# Altium schematic symbol library Capacitor - Aluminium.SchLib: 294 symbols (part 4 of 5)
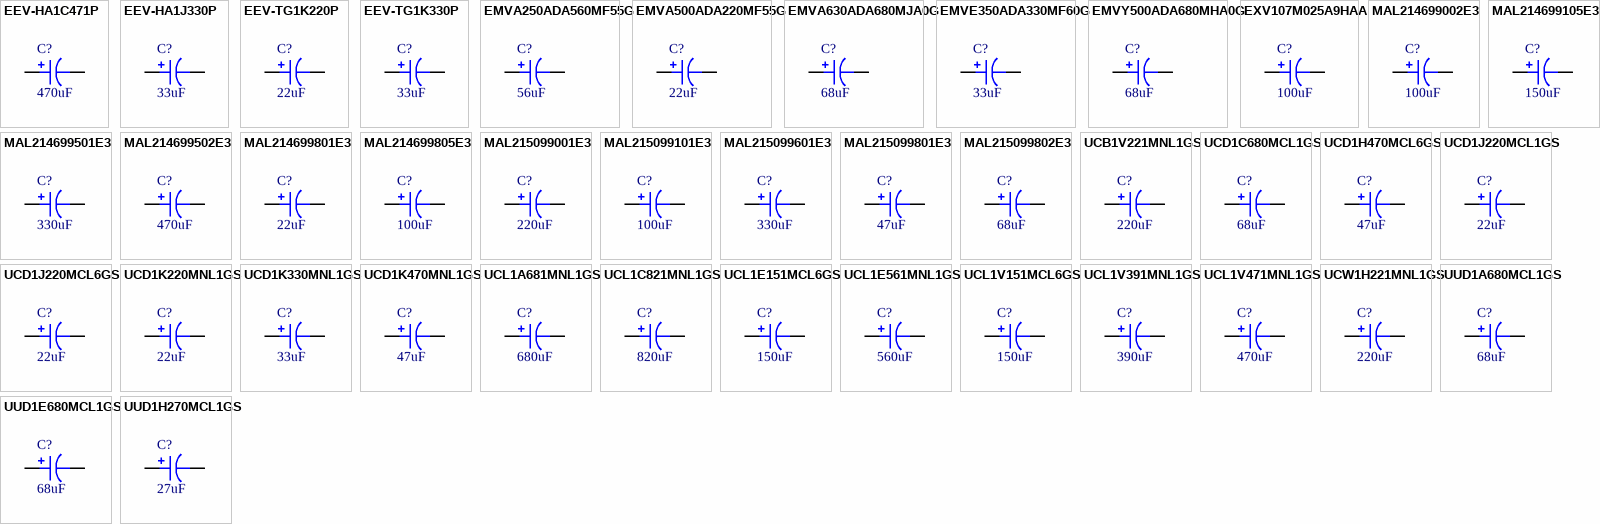
[diagram p10: symbols EEV-HA1C471P to UUD1H270MCL1GS]

## UUD1H270MCL1GS
designator C?, comment 27uF
CAP ALUM 27UF 20% 50V SMD; Part Number: UUD1H270MCL1GS; Manufacturer: Nichicon; TemperatureRange: -55C ~ 105C; Type: General Purpose; Ripple Current: 185mA; Impedance: 680 mOhm; Lifetime @ Temp: 2000 Hrs @ 105C; Value: 27uF; PartId: 7251; Supplier 1: Digi-Key; Supplier Part Number 1: 493-2301-2-ND; ComponentLink1Description: Datasheet; ComponentLink1URL: http://nichicon-us.com/english/products/pdfs/e-ud.pdf; ComponentLink2Description: Digi-Key listing; ComponentLink2URL: http://digikey.com/product-detail/en/UUD1H270MCL1GS/493-2301-2-ND/590042; Tolerance: 20%; Voltage: 50V; Price: 0.1846; Device Package: Radial, Can - SMD
footprint CAP ALUM 6.6MM
pins: 1, 2

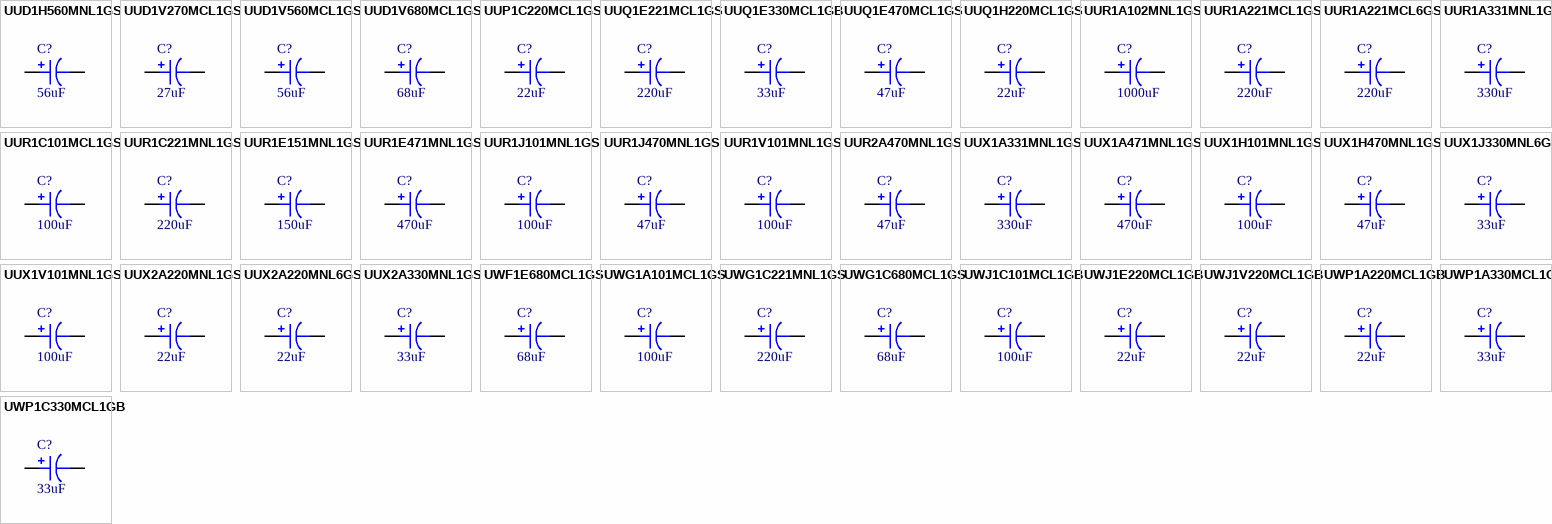
[diagram p5: symbols UUD1H560MNL1GS to UWP1C330MCL1GB]

## UUD1H560MNL1GS
designator C?, comment 56uF
CAP ALUM 56UF 20% 50V SMD; Part Number: UUD1H560MNL1GS; Manufacturer: Nichicon; TemperatureRange: -55C ~ 105C; Type: General Purpose; Ripple Current: 300mA; Impedance: 340 mOhm; Lifetime @ Temp: 5000 Hrs @ 105C; Value: 56uF; PartId: 7356; Supplier 1: Digi-Key; Supplier Part Number 1: 493-2304-2-ND; ComponentLink1Description: Datasheet; ComponentLink1URL: http://nichicon-us.com/english/products/pdfs/e-ud.pdf; ComponentLink2Description: Digi-Key listing; ComponentLink2URL: http://digikey.com/product-detail/en/UUD1H560MNL1GS/493-2304-2-ND/590045; Tolerance: 20%; Voltage: 50V; Price: 0.3417; Device Package: Radial, Can - SMD
footprint CAP ALUM 8.3MM
pins: 1, 2

## UUD1V270MCL1GS
designator C?, comment 27uF
CAP ALUM 27UF 20% 35V SMD; Part Number: UUD1V270MCL1GS; Manufacturer: Nichicon; TemperatureRange: -55C ~ 105C; Type: General Purpose; Ripple Current: 230mA; Impedance: 440 mOhm; Lifetime @ Temp: 2000 Hrs @ 105C; Value: 27uF; PartId: 7236; Supplier 1: Digi-Key; Supplier Part Number 1: 493-2285-2-ND; ComponentLink1Description: Datasheet; ComponentLink1URL: http://nichicon-us.com/english/products/pdfs/e-ud.pdf; ComponentLink2Description: Digi-Key listing; ComponentLink2URL: http://digikey.com/product-detail/en/UUD1V270MCL1GS/493-2285-2-ND/590026; Tolerance: 20%; Voltage: 35V; Price: 0.1632; Device Package: Radial, Can - SMD
footprint CAP ALUM 6.6MM
pins: 1, 2

## UUD1V560MCL1GS
designator C?, comment 56uF
CAP ALUM 56UF 20% 35V SMD; Part Number: UUD1V560MCL1GS; Manufacturer: Nichicon; TemperatureRange: -55C ~ 105C; Type: General Purpose; Ripple Current: 280mA; Impedance: 340 mOhm; Lifetime @ Temp: 2000 Hrs @ 105C; Value: 56uF; PartId: 7245; Supplier 1: Digi-Key; Supplier Part Number 1: 493-2288-2-ND; ComponentLink1Description: Datasheet; ComponentLink1URL: http://nichicon-us.com/english/products/pdfs/e-ud.pdf; ComponentLink2Description: Digi-Key listing; ComponentLink2URL: http://digikey.com/product-detail/en/UUD1V560MCL1GS/493-2288-2-ND/590029; Tolerance: 20%; Voltage: 35V; Price: 0.1718; Device Package: Radial, Can - SMD
footprint CAP ALUM 6.6MM
pins: 1, 2

## UUD1V680MCL1GS
designator C?, comment 68uF
CAP ALUM 68UF 20% 35V SMD; Part Number: UUD1V680MCL1GS; Manufacturer: Nichicon; TemperatureRange: -55C ~ 105C; Type: General Purpose; Ripple Current: 280mA; Impedance: 340 mOhm; Lifetime @ Temp: 2000 Hrs @ 105C; Value: 68uF; PartId: 7244; Supplier 1: Digi-Key; Supplier Part Number 1: 493-2289-2-ND; ComponentLink1Description: Datasheet; ComponentLink1URL: http://nichicon-us.com/english/products/pdfs/e-ud.pdf; ComponentLink2Description: Digi-Key listing; ComponentLink2URL: http://digikey.com/product-detail/en/UUD1V680MCL1GS/493-2289-2-ND/590030; Tolerance: 20%; Voltage: 35V; Price: 0.1718; Device Package: Radial, Can - SMD
footprint CAP ALUM 6.6MM
pins: 1, 2

## UUP1C220MCL1GS
designator C?, comment 22uF
CAP ALUM 22UF 20% 16V SMD; Part Number: UUP1C220MCL1GS; Manufacturer: Nichicon; TemperatureRange: -55C ~ 105C; Ripple Current: 37mA; Lifetime @ Temp: 1000 Hrs @ 105C; Value: 22uF; PartId: 7269; Supplier 1: Digi-Key; Supplier Part Number 1: 493-9545-2-ND; ComponentLink1Description: Datasheet; ComponentLink1URL: http://nichicon-us.com/english/products/pdfs/e-up.pdf; ComponentLink2Description: Digi-Key listing; ComponentLink2URL: http://digikey.com/product-detail/en/UUP1C220MCL1GS/493-9545-2-ND/2550391; Tolerance: 20%; Voltage: 16V; Price: 0.297; Type: -; Device Package: Radial, Can - SMD; Impedance: -
footprint CAP ALUM 6.6MM
pins: 1, 2

## UUQ1E221MCL1GS
designator C?, comment 220uF
CAP ALUM 220UF 20% 25V SMD; Part Number: UUQ1E221MCL1GS; Manufacturer: Nichicon; TemperatureRange: -40C ~ 105C; Type: Audio; Ripple Current: 300mA; Lifetime @ Temp: 1000 Hrs @ 105C; Value: 220uF; PartId: 7472; Supplier 1: Digi-Key; Supplier Part Number 1: 493-3204-2-ND; ComponentLink1Description: Datasheet; ComponentLink1URL: http://nichicon-us.com/english/products/pdfs/e-uq.pdf; ComponentLink2Description: Digi-Key listing; ComponentLink2URL: http://digikey.com/product-detail/en/UUQ1E221MCL1GS/493-3204-2-ND/1965340; Tolerance: 20%; Voltage: 25V; Price: 0.7503; Device Package: Radial, Can - SMD; Impedance: -
footprint CAP ALUM 10.3MM
pins: 1, 2

## UUQ1E330MCL1GB
designator C?, comment 33uF
CAP ALUM 33UF 20% 25V SMD; Part Number: UUQ1E330MCL1GB; Manufacturer: Nichicon; TemperatureRange: -40C ~ 105C; Type: Audio; Ripple Current: 48mA; Lifetime @ Temp: 1000 Hrs @ 105C; Value: 33uF; PartId: 7268; Supplier 1: Digi-Key; Supplier Part Number 1: 493-3205-2-ND; ComponentLink1Description: Datasheet; ComponentLink1URL: http://nichicon-us.com/english/products/pdfs/e-uq.pdf; ComponentLink2Description: Digi-Key listing; ComponentLink2URL: http://digikey.com/product-detail/en/UUQ1E330MCL1GB/493-3205-2-ND/1965341; Tolerance: 20%; Voltage: 25V; Price: 0.2877; Device Package: Radial, Can - SMD; Impedance: -
footprint CAP ALUM 6.6MM
pins: 1, 2

## UUQ1E470MCL1GS
designator C?, comment 47uF
CAP ALUM 47UF 20% 25V SMD; Part Number: UUQ1E470MCL1GS; Manufacturer: Nichicon; TemperatureRange: -40C ~ 105C; Type: Audio; Ripple Current: 66mA; Lifetime @ Temp: 1000 Hrs @ 105C; Value: 47uF; PartId: 7367; Supplier 1: Digi-Key; Supplier Part Number 1: 493-3206-2-ND; ComponentLink1Description: Datasheet; ComponentLink1URL: http://nichicon-us.com/english/products/pdfs/e-uq.pdf; ComponentLink2Description: Digi-Key listing; ComponentLink2URL: http://digikey.com/product-detail/en/UUQ1E470MCL1GS/493-3206-2-ND/1965342; Tolerance: 20%; Voltage: 25V; Price: 0.4126; Device Package: Radial, Can - SMD; Impedance: -
footprint CAP ALUM 8.3MM
pins: 1, 2

## UUQ1H220MCL1GS
designator C?, comment 22uF
CAP ALUM 22UF 20% 50V SMD; Part Number: UUQ1H220MCL1GS; Manufacturer: Nichicon; TemperatureRange: -40C ~ 105C; Type: Audio; Ripple Current: 51mA; Lifetime @ Temp: 1000 Hrs @ 105C; Value: 22uF; PartId: 7368; Supplier 1: Digi-Key; Supplier Part Number 1: 493-3210-2-ND; ComponentLink1Description: Datasheet; ComponentLink1URL: http://nichicon-us.com/english/products/pdfs/e-uq.pdf; ComponentLink2Description: Digi-Key listing; ComponentLink2URL: http://digikey.com/product-detail/en/UUQ1H220MCL1GS/493-3210-2-ND/1965346; Tolerance: 20%; Voltage: 50V; Price: 0.4126; Device Package: Radial, Can - SMD; Impedance: -
footprint CAP ALUM 8.3MM
pins: 1, 2

## UUR1A102MNL1GS
designator C?, comment 1000uF
CAP ALUM 1000UF 20% 10V SMD; Part Number: UUR1A102MNL1GS; Manufacturer: Nichicon; TemperatureRange: -40C ~ 85C; Type: General Purpose; Ripple Current: 454mA; Lifetime @ Temp: 2000 Hrs @ 85C; Value: 1000uF; PartId: 7411; Supplier 1: Digi-Key; Supplier Part Number 1: 493-6208-2-ND; ComponentLink1Description: Datasheet; ComponentLink1URL: http://nichicon-us.com/english/products/pdfs/e-ur.pdf; ComponentLink2Description: Digi-Key listing; ComponentLink2URL: http://digikey.com/product-detail/en/UUR1A102MNL1GS/493-6208-2-ND/2550425; Tolerance: 20%; Voltage: 10V; Price: 0.3313; Device Package: Radial, Can - SMD; Impedance: -
footprint CAP ALUM 10.3MM
pins: 1, 2

## UUR1A221MCL1GS
designator C?, comment 220uF
CAP ALUM 220UF 20% 10V SMD; Part Number: UUR1A221MCL1GS; Manufacturer: Nichicon; TemperatureRange: -40C ~ 85C; Type: General Purpose; Ripple Current: 175mA; Lifetime @ Temp: 2000 Hrs @ 85C; Value: 220uF; PartId: 7307; Supplier 1: Digi-Key; Supplier Part Number 1: 493-6209-2-ND; ComponentLink1Description: Datasheet; ComponentLink1URL: http://nichicon-us.com/english/products/pdfs/e-ur.pdf; ComponentLink2Description: Digi-Key listing; ComponentLink2URL: http://digikey.com/product-detail/en/UUR1A221MCL1GS/493-6209-2-ND/2550427; Tolerance: 20%; Voltage: 10V; Price: 0.1583; Device Package: Radial, Can - SMD; Impedance: -
footprint CAP ALUM 8.3MM
pins: 1, 2

## UUR1A221MCL6GS
designator C?, comment 220uF
CAP ALUM 220UF 20% 10V SMD; Part Number: UUR1A221MCL6GS; Manufacturer: Nichicon; TemperatureRange: -40C ~ 85C; Type: General Purpose; Ripple Current: 173mA; Lifetime @ Temp: 2000 Hrs @ 85C; Value: 220uF; PartId: 7207; Supplier 1: Digi-Key; Supplier Part Number 1: 493-6210-2-ND; ComponentLink1Description: Datasheet; ComponentLink1URL: http://nichicon-us.com/english/products/pdfs/e-ur.pdf; ComponentLink2Description: Digi-Key listing; ComponentLink2URL: http://digikey.com/product-detail/en/UUR1A221MCL6GS/493-6210-2-ND/2550428; Tolerance: 20%; Voltage: 10V; Price: 0.1199; Device Package: Radial, Can - SMD; Impedance: -
footprint CAP ALUM 6.6MM
pins: 1, 2

## UUR1A331MNL1GS
designator C?, comment 330uF
CAP ALUM 330UF 20% 10V SMD; Part Number: UUR1A331MNL1GS; Manufacturer: Nichicon; TemperatureRange: -40C ~ 85C; Type: General Purpose; Ripple Current: 240mA; Lifetime @ Temp: 2000 Hrs @ 85C; Value: 330uF; PartId: 7278; Supplier 1: Digi-Key; Supplier Part Number 1: 493-6211-2-ND; ComponentLink1Description: Datasheet; ComponentLink1URL: http://nichicon-us.com/english/products/pdfs/e-ur.pdf; ComponentLink2Description: Digi-Key listing; ComponentLink2URL: http://digikey.com/product-detail/en/UUR1A331MNL1GS/493-6211-2-ND/2550429; Tolerance: 20%; Voltage: 10V; Price: 0.2004; Device Package: Radial, Can - SMD; Impedance: -
footprint CAP ALUM 8.3MM
pins: 1, 2

## UUR1C101MCL1GS
designator C?, comment 100uF
CAP ALUM 100UF 20% 16V SMD; Part Number: UUR1C101MCL1GS; Manufacturer: Nichicon; TemperatureRange: -40C ~ 85C; Type: General Purpose; Ripple Current: 125mA; Lifetime @ Temp: 2000 Hrs @ 85C; Value: 100uF; PartId: 7304; Supplier 1: Digi-Key; Supplier Part Number 1: 493-6213-2-ND; ComponentLink1Description: Datasheet; ComponentLink1URL: http://nichicon-us.com/english/products/pdfs/e-ur.pdf; ComponentLink2Description: Digi-Key listing; ComponentLink2URL: http://digikey.com/product-detail/en/UUR1C101MCL1GS/493-6213-2-ND/2550432; Tolerance: 20%; Voltage: 16V; Price: 0.133; Device Package: Radial, Can - SMD; Impedance: -
footprint CAP ALUM 8.3MM
pins: 1, 2

## UUR1C221MNL1GS
designator C?, comment 220uF
CAP ALUM 220UF 20% 16V SMD; Part Number: UUR1C221MNL1GS; Manufacturer: Nichicon; TemperatureRange: -40C ~ 85C; Type: General Purpose; Ripple Current: 215mA; Lifetime @ Temp: 2000 Hrs @ 85C; Value: 220uF; PartId: 7316; Supplier 1: Digi-Key; Supplier Part Number 1: 493-6215-2-ND; ComponentLink1Description: Datasheet; ComponentLink1URL: http://nichicon-us.com/english/products/pdfs/e-ur.pdf; ComponentLink2Description: Digi-Key listing; ComponentLink2URL: http://digikey.com/product-detail/en/UUR1C221MNL1GS/493-6215-2-ND/2550435; Tolerance: 20%; Voltage: 16V; Price: 0.1894; Device Package: Radial, Can - SMD; Impedance: -
footprint CAP ALUM 8.3MM
pins: 1, 2

## UUR1E151MNL1GS
designator C?, comment 150uF
CAP ALUM 150UF 20% 25V SMD; Part Number: UUR1E151MNL1GS; Manufacturer: Nichicon; TemperatureRange: -40C ~ 85C; Type: General Purpose; Ripple Current: 192mA; Lifetime @ Temp: 2000 Hrs @ 85C; Value: 150uF; PartId: 7284; Supplier 1: Digi-Key; Supplier Part Number 1: 493-9576-2-ND; ComponentLink1Description: Datasheet; ComponentLink1URL: http://nichicon-us.com/english/products/pdfs/e-ur.pdf; ComponentLink2Description: Digi-Key listing; ComponentLink2URL: http://digikey.com/product-detail/en/UUR1E151MNL1GS/493-9576-2-ND/2550441; Tolerance: 20%; Voltage: 25V; Price: 0.2177; Device Package: Radial, Can - SMD; Impedance: -
footprint CAP ALUM 8.3MM
pins: 1, 2

## UUR1E471MNL1GS
designator C?, comment 470uF
CAP ALUM 470UF 20% 25V SMD; Part Number: UUR1E471MNL1GS; Manufacturer: Nichicon; TemperatureRange: -40C ~ 85C; Type: General Purpose; Ripple Current: 393mA; Lifetime @ Temp: 2000 Hrs @ 85C; Value: 470uF; PartId: 7390; Supplier 1: Digi-Key; Supplier Part Number 1: 493-6225-2-ND; ComponentLink1Description: Datasheet; ComponentLink1URL: http://nichicon-us.com/english/products/pdfs/e-ur.pdf; ComponentLink2Description: Digi-Key listing; ComponentLink2URL: http://digikey.com/product-detail/en/UUR1E471MNL1GS/493-6225-2-ND/2550447; Tolerance: 20%; Voltage: 25V; Price: 0.2777; Device Package: Radial, Can - SMD; Impedance: -
footprint CAP ALUM 10.3MM
pins: 1, 2

## UUR1J101MNL1GS
designator C?, comment 100uF
CAP ALUM 100UF 20% 63V SMD; Part Number: UUR1J101MNL1GS; Manufacturer: Nichicon; TemperatureRange: -40C ~ 85C; Type: General Purpose; Ripple Current: 232mA; Lifetime @ Temp: 2000 Hrs @ 85C; Value: 100uF; PartId: 7394; Supplier 1: Digi-Key; Supplier Part Number 1: 493-6232-2-ND; ComponentLink1Description: Datasheet; ComponentLink1URL: http://nichicon-us.com/english/products/pdfs/e-ur.pdf; ComponentLink2Description: Digi-Key listing; ComponentLink2URL: http://digikey.com/product-detail/en/UUR1J101MNL1GS/493-6232-2-ND/2550458; Tolerance: 20%; Voltage: 63V; Price: 0.2972; Device Package: Radial, Can - SMD; Impedance: -
footprint CAP ALUM 10.3MM
pins: 1, 2

## UUR1J470MNL1GS
designator C?, comment 47uF
CAP ALUM 47UF 20% 63V SMD; Part Number: UUR1J470MNL1GS; Manufacturer: Nichicon; TemperatureRange: -40C ~ 85C; Type: General Purpose; Ripple Current: 140mA; Lifetime @ Temp: 2000 Hrs @ 85C; Value: 47uF; PartId: 7283; Supplier 1: Digi-Key; Supplier Part Number 1: 493-6235-2-ND; ComponentLink1Description: Datasheet; ComponentLink1URL: http://nichicon-us.com/english/products/pdfs/e-ur.pdf; ComponentLink2Description: Digi-Key listing; ComponentLink2URL: http://digikey.com/product-detail/en/UUR1J470MNL1GS/493-6235-2-ND/2550461; Tolerance: 20%; Voltage: 63V; Price: 0.2143; Device Package: Radial, Can - SMD; Impedance: -
footprint CAP ALUM 8.3MM
pins: 1, 2

## UUR1V101MNL1GS
designator C?, comment 100uF
CAP ALUM 100UF 20% 35V SMD; Part Number: UUR1V101MNL1GS; Manufacturer: Nichicon; TemperatureRange: -40C ~ 85C; Type: General Purpose; Ripple Current: 175mA; Lifetime @ Temp: 2000 Hrs @ 85C; Value: 100uF; PartId: 7324; Supplier 1: Digi-Key; Supplier Part Number 1: 493-6237-2-ND; ComponentLink1Description: Datasheet; ComponentLink1URL: http://nichicon-us.com/english/products/pdfs/e-ur.pdf; ComponentLink2Description: Digi-Key listing; ComponentLink2URL: http://digikey.com/product-detail/en/UUR1V101MNL1GS/493-6237-2-ND/2550464; Tolerance: 20%; Voltage: 35V; Price: 0.2263; Device Package: Radial, Can - SMD; Impedance: -
footprint CAP ALUM 8.3MM
pins: 1, 2

## UUR2A470MNL1GS
designator C?, comment 47uF
CAP ALUM 47UF 20% 100V SMD; Part Number: UUR2A470MNL1GS; Manufacturer: Nichicon; TemperatureRange: -40C ~ 85C; Type: General Purpose; Ripple Current: 155mA; Lifetime @ Temp: 2000 Hrs @ 85C; Value: 47uF; PartId: 7396; Supplier 1: Digi-Key; Supplier Part Number 1: 493-9589-2-ND; ComponentLink1Description: Datasheet; ComponentLink1URL: http://nichicon-us.com/english/products/pdfs/e-ur.pdf; ComponentLink2Description: Digi-Key listing; ComponentLink2URL: http://digikey.com/product-detail/en/UUR2A470MNL1GS/493-9589-2-ND/2550476; Tolerance: 20%; Voltage: 100V; Price: 0.3087; Device Package: Radial, Can - SMD; Impedance: -
footprint CAP ALUM 10.3MM
pins: 1, 2

## UUX1A331MNL1GS
designator C?, comment 330uF
CAP ALUM 330UF 20% 10V SMD; Part Number: UUX1A331MNL1GS; Manufacturer: Nichicon; TemperatureRange: -55C ~ 105C; Type: General Purpose; Ripple Current: 318mA; Lifetime @ Temp: 2000 Hrs @ 105C; Value: 330uF; PartId: 7382; Supplier 1: Digi-Key; Supplier Part Number 1: 493-9610-2-ND; ComponentLink1Description: Datasheet; ComponentLink1URL: http://nichicon-us.com/english/products/pdfs/e-ux.pdf; ComponentLink2Description: Digi-Key listing; ComponentLink2URL: http://digikey.com/product-detail/en/UUX1A331MNL1GS/493-9610-2-ND/2550519; Tolerance: 20%; Voltage: 10V; Price: 0.2143; Device Package: Radial, Can - SMD; Impedance: -
footprint CAP ALUM 10.3MM
pins: 1, 2

## UUX1A471MNL1GS
designator C?, comment 470uF
CAP ALUM 470UF 20% 10V SMD; Part Number: UUX1A471MNL1GS; Manufacturer: Nichicon; TemperatureRange: -55C ~ 105C; Type: General Purpose; Ripple Current: 351mA; Lifetime @ Temp: 2000 Hrs @ 105C; Value: 470uF; PartId: 7385; Supplier 1: Digi-Key; Supplier Part Number 1: 493-6265-2-ND; ComponentLink1Description: Datasheet; ComponentLink1URL: http://nichicon-us.com/english/products/pdfs/e-ux.pdf; ComponentLink2Description: Digi-Key listing; ComponentLink2URL: http://digikey.com/product-detail/en/UUX1A471MNL1GS/493-6265-2-ND/2550521; Tolerance: 20%; Voltage: 10V; Price: 0.2671; Device Package: Radial, Can - SMD; Impedance: -
footprint CAP ALUM 10.3MM
pins: 1, 2

## UUX1H101MNL1GS
designator C?, comment 100uF
CAP ALUM 100UF 20% 50V SMD; Part Number: UUX1H101MNL1GS; Manufacturer: Nichicon; TemperatureRange: -55C ~ 105C; Type: General Purpose; Ripple Current: 310mA; Lifetime @ Temp: 2000 Hrs @ 105C; Value: 100uF; PartId: 7391; Supplier 1: Digi-Key; Supplier Part Number 1: 493-6269-2-ND; ComponentLink1Description: Datasheet; ComponentLink1URL: http://nichicon-us.com/english/products/pdfs/e-ux.pdf; ComponentLink2Description: Digi-Key listing; ComponentLink2URL: http://digikey.com/product-detail/en/UUX1H101MNL1GS/493-6269-2-ND/2550537; Tolerance: 20%; Voltage: 50V; Price: 0.2791; Device Package: Radial, Can - SMD; Impedance: -
footprint CAP ALUM 10.3MM
pins: 1, 2

## UUX1H470MNL1GS
designator C?, comment 47uF
CAP ALUM 47UF 20% 50V SMD; Part Number: UUX1H470MNL1GS; Manufacturer: Nichicon; TemperatureRange: -55C ~ 105C; Type: General Purpose; Ripple Current: 180mA; Lifetime @ Temp: 2000 Hrs @ 105C; Value: 47uF; PartId: 7380; Supplier 1: Digi-Key; Supplier Part Number 1: 493-6271-2-ND; ComponentLink1Description: Datasheet; ComponentLink1URL: http://nichicon-us.com/english/products/pdfs/e-ux.pdf; ComponentLink2Description: Digi-Key listing; ComponentLink2URL: http://digikey.com/product-detail/en/UUX1H470MNL1GS/493-6271-2-ND/2550541; Tolerance: 20%; Voltage: 50V; Price: 0.204; Device Package: Radial, Can - SMD; Impedance: -
footprint CAP ALUM 10.3MM
pins: 1, 2

## UUX1J330MNL6GS
designator C?, comment 33uF
CAP ALUM 33UF 20% 63V SMD; Part Number: UUX1J330MNL6GS; Manufacturer: Nichicon; TemperatureRange: -55C ~ 105C; Type: General Purpose; Ripple Current: 179mA; Lifetime @ Temp: 2000 Hrs @ 105C; Value: 33uF; PartId: 7280; Supplier 1: Digi-Key; Supplier Part Number 1: 493-9972-2-ND; ComponentLink1Description: Datasheet; ComponentLink1URL: http://nichicon-us.com/english/products/pdfs/e-ux.pdf; ComponentLink2Description: Digi-Key listing; ComponentLink2URL: http://digikey.com/product-detail/en/UUX1J330MNL6GS/493-9972-2-ND/3974015; Tolerance: 20%; Voltage: 63V; Price: 0.2056; Device Package: Radial, Can - SMD; Impedance: -
footprint CAP ALUM 8.3MM
pins: 1, 2

## UUX1V101MNL1GS
designator C?, comment 100uF
CAP ALUM 100UF 20% 35V SMD; Part Number: UUX1V101MNL1GS; Manufacturer: Nichicon; TemperatureRange: -55C ~ 105C; Type: General Purpose; Ripple Current: 304mA; Lifetime @ Temp: 2000 Hrs @ 105C; Value: 100uF; PartId: 7383; Supplier 1: Digi-Key; Supplier Part Number 1: 493-6275-2-ND; ComponentLink1Description: Datasheet; ComponentLink1URL: http://nichicon-us.com/english/products/pdfs/e-ux.pdf; ComponentLink2Description: Digi-Key listing; ComponentLink2URL: http://digikey.com/product-detail/en/UUX1V101MNL1GS/493-6275-2-ND/2550549; Tolerance: 20%; Voltage: 35V; Price: 0.255; Device Package: Radial, Can - SMD; Impedance: -
footprint CAP ALUM 10.3MM
pins: 1, 2

## UUX2A220MNL1GS
designator C?, comment 22uF
CAP ALUM 22UF 20% 100V SMD; Part Number: UUX2A220MNL1GS; Manufacturer: Nichicon; TemperatureRange: -55C ~ 105C; Type: General Purpose; Ripple Current: 150mA; Lifetime @ Temp: 2000 Hrs @ 105C; Value: 22uF; PartId: 7381; Supplier 1: Digi-Key; Supplier Part Number 1: 493-6280-2-ND; ComponentLink1Description: Datasheet; ComponentLink1URL: http://nichicon-us.com/english/products/pdfs/e-ux.pdf; ComponentLink2Description: Digi-Key listing; ComponentLink2URL: http://digikey.com/product-detail/en/UUX2A220MNL1GS/493-6280-2-ND/2550556; Tolerance: 20%; Voltage: 100V; Price: 0.2129; Device Package: Radial, Can - SMD; Impedance: -
footprint CAP ALUM 10.3MM
pins: 1, 2

## UUX2A220MNL6GS
designator C?, comment 22uF
CAP ALUM 22UF 20% 100V SMD; Part Number: UUX2A220MNL6GS; Manufacturer: Nichicon; TemperatureRange: -55C ~ 105C; Type: General Purpose; Ripple Current: 121mA; Lifetime @ Temp: 2000 Hrs @ 105C; Value: 22uF; PartId: 7281; Supplier 1: Digi-Key; Supplier Part Number 1: 493-6199-2-ND; ComponentLink1Description: Datasheet; ComponentLink1URL: http://nichicon-us.com/english/products/pdfs/e-ux.pdf; ComponentLink2Description: Digi-Key listing; ComponentLink2URL: http://digikey.com/product-detail/en/UUX2A220MNL6GS/493-6199-2-ND/2550557; Tolerance: 20%; Voltage: 100V; Price: 0.2107; Device Package: Radial, Can - SMD; Impedance: -
footprint CAP ALUM 8.3MM
pins: 1, 2

## UUX2A330MNL1GS
designator C?, comment 33uF
CAP ALUM 33UF 20% 100V SMD; Part Number: UUX2A330MNL1GS; Manufacturer: Nichicon; TemperatureRange: -55C ~ 105C; Type: General Purpose; Ripple Current: 180mA; Lifetime @ Temp: 2000 Hrs @ 105C; Value: 33uF; PartId: 7393; Supplier 1: Digi-Key; Supplier Part Number 1: 493-6281-2-ND; ComponentLink1Description: Datasheet; ComponentLink1URL: http://nichicon-us.com/english/products/pdfs/e-ux.pdf; ComponentLink2Description: Digi-Key listing; ComponentLink2URL: http://digikey.com/product-detail/en/UUX2A330MNL1GS/493-6281-2-ND/2550558; Tolerance: 20%; Voltage: 100V; Price: 0.2906; Device Package: Radial, Can - SMD; Impedance: -
footprint CAP ALUM 10.3MM
pins: 1, 2

## UWF1E680MCL1GS
designator C?, comment 68uF
CAP ALUM 68UF 20% 25V SMD; Part Number: UWF1E680MCL1GS; Manufacturer: Nichicon; TemperatureRange: -55C ~ 105C; Type: General Purpose; Ripple Current: 75mA; Impedance: 800 mOhm; Lifetime @ Temp: 1000 Hrs @ 105C; Value: 68uF; PartId: 7333; Supplier 1: Digi-Key; Supplier Part Number 1: 493-9722-2-ND; ComponentLink1Description: Datasheet; ComponentLink1URL: http://nichicon-us.com/english/products/pdfs/e-wf.pdf; ComponentLink2Description: Digi-Key listing; ComponentLink2URL: http://digikey.com/product-detail/en/UWF1E680MCL1GS/493-9722-2-ND/2550665; Tolerance: 20%; Voltage: 25V; Price: 0.2529; Device Package: Radial, Can - SMD
footprint CAP ALUM 8.3MM
pins: 1, 2

## UWG1A101MCL1GS
designator C?, comment 100uF
CAP ALUM 100UF 20% 10V SMD; Part Number: UWG1A101MCL1GS; Manufacturer: Nichicon; TemperatureRange: -55C ~ 105C; Type: General Purpose; Ripple Current: 115mA; Impedance: 400 mOhm; Lifetime @ Temp: 1000 Hrs @ 105C; Value: 100uF; PartId: 7334; Supplier 1: Digi-Key; Supplier Part Number 1: 493-6303-2-ND; ComponentLink1Description: Datasheet; ComponentLink1URL: http://nichicon-us.com/english/products/pdfs/e-wg.pdf; ComponentLink2Description: Digi-Key listing; ComponentLink2URL: http://digikey.com/product-detail/en/UWG1A101MCL1GS/493-6303-2-ND/2550686; Tolerance: 20%; Voltage: 10V; Price: 0.2546; Device Package: Radial, Can - SMD
footprint CAP ALUM 8.3MM
pins: 1, 2

## UWG1C221MNL1GS
designator C?, comment 220uF
CAP ALUM 220UF 20% 16V SMD; Part Number: UWG1C221MNL1GS; Manufacturer: Nichicon; TemperatureRange: -55C ~ 105C; Type: General Purpose; Ripple Current: 335mA; Impedance: 150 mOhm; Lifetime @ Temp: 1000 Hrs @ 105C; Value: 220uF; PartId: 7423; Supplier 1: Digi-Key; Supplier Part Number 1: 493-6308-2-ND; ComponentLink1Description: Datasheet; ComponentLink1URL: http://nichicon-us.com/english/products/pdfs/e-wg.pdf; ComponentLink2Description: Digi-Key listing; ComponentLink2URL: http://digikey.com/product-detail/en/UWG1C221MNL1GS/493-6308-2-ND/2550695; Tolerance: 20%; Voltage: 16V; Price: 0.3619; Device Package: Radial, Can - SMD
footprint CAP ALUM 10.3MM
pins: 1, 2

## UWG1C680MCL1GS
designator C?, comment 68uF
CAP ALUM 68UF 20% 16V SMD; Part Number: UWG1C680MCL1GS; Manufacturer: Nichicon; TemperatureRange: -55C ~ 105C; Type: General Purpose; Ripple Current: 115mA; Impedance: 400 mOhm; Lifetime @ Temp: 1000 Hrs @ 105C; Value: 68uF; PartId: 7335; Supplier 1: Digi-Key; Supplier Part Number 1: 493-6311-2-ND; ComponentLink1Description: Datasheet; ComponentLink1URL: http://nichicon-us.com/english/products/pdfs/e-wg.pdf; ComponentLink2Description: Digi-Key listing; ComponentLink2URL: http://digikey.com/product-detail/en/UWG1C680MCL1GS/493-6311-2-ND/2550699; Tolerance: 20%; Voltage: 16V; Price: 0.2592; Device Package: Radial, Can - SMD
footprint CAP ALUM 8.3MM
pins: 1, 2

## UWJ1C101MCL1GB
designator C?, comment 100uF
CAP ALUM 100UF 20% 16V SMD; Part Number: UWJ1C101MCL1GB; Manufacturer: Nichicon; TemperatureRange: -40C ~ 85C; Type: General Purpose; Ripple Current: 86mA; Lifetime @ Temp: 2000 Hrs @ 85C; Value: 100uF; PartId: 7202; Supplier 1: Digi-Key; Supplier Part Number 1: 493-9787-2-ND; ComponentLink1Description: Datasheet; ComponentLink1URL: http://nichicon-us.com/english/products/pdfs/e-wj.pdf; ComponentLink2Description: Digi-Key listing; ComponentLink2URL: http://digikey.com/product-detail/en/UWJ1C101MCL1GB/493-9787-2-ND/2550756; Tolerance: 20%; Voltage: 16V; Price: 0.1145; Device Package: Radial, Can - SMD; Impedance: -
footprint CAP ALUM 6.6MM
pins: 1, 2

## UWJ1E220MCL1GB
designator C?, comment 22uF
CAP ALUM 22UF 20% 25V SMD; Part Number: UWJ1E220MCL1GB; Manufacturer: Nichicon; TemperatureRange: -40C ~ 85C; Type: General Purpose; Ripple Current: 42mA; Lifetime @ Temp: 2000 Hrs @ 85C; Value: 22uF; PartId: 7193; Supplier 1: Digi-Key; Supplier Part Number 1: 493-9792-2-ND; ComponentLink1Description: Datasheet; ComponentLink1URL: http://nichicon-us.com/english/products/pdfs/e-wj.pdf; ComponentLink2Description: Digi-Key listing; ComponentLink2URL: http://digikey.com/product-detail/en/UWJ1E220MCL1GB/493-9792-2-ND/2550761; Tolerance: 20%; Voltage: 25V; Price: 0.1009; Device Package: Radial, Can - SMD; Impedance: -
footprint CAP ALUM 6.6MM
pins: 1, 2

## UWJ1V220MCL1GB
designator C?, comment 22uF
CAP ALUM 22UF 20% 35V SMD; Part Number: UWJ1V220MCL1GB; Manufacturer: Nichicon; TemperatureRange: -40C ~ 85C; Type: General Purpose; Ripple Current: 45mA; Lifetime @ Temp: 2000 Hrs @ 85C; Value: 22uF; PartId: 7192; Supplier 1: Digi-Key; Supplier Part Number 1: 493-9805-2-ND; ComponentLink1Description: Datasheet; ComponentLink1URL: http://nichicon-us.com/english/products/pdfs/e-wj.pdf; ComponentLink2Description: Digi-Key listing; ComponentLink2URL: http://digikey.com/product-detail/en/UWJ1V220MCL1GB/493-9805-2-ND/2550774; Tolerance: 20%; Voltage: 35V; Price: 0.1009; Device Package: Radial, Can - SMD; Impedance: -
footprint CAP ALUM 6.6MM
pins: 1, 2

## UWP1A220MCL1GB
designator C?, comment 22uF
CAP ALUM 22UF 20% 10V SMD; Part Number: UWP1A220MCL1GB; Manufacturer: Nichicon; TemperatureRange: -40C ~ 85C; Ripple Current: 33mA; Lifetime @ Temp: 1000 Hrs @ 85C; Value: 22uF; PartId: 7265; Supplier 1: Digi-Key; Supplier Part Number 1: 493-9812-2-ND; ComponentLink1Description: Datasheet; ComponentLink1URL: http://nichicon-us.com/english/products/pdfs/e-wp.pdf; ComponentLink2Description: Digi-Key listing; ComponentLink2URL: http://digikey.com/product-detail/en/UWP1A220MCL1GB/493-9812-2-ND/2550781; Tolerance: 20%; Voltage: 10V; Price: 0.2541; Type: -; Device Package: Radial, Can - SMD; Impedance: -
footprint CAP ALUM 6.6MM
pins: 1, 2

## UWP1A330MCL1GB
designator C?, comment 33uF
CAP ALUM 33UF 20% 10V SMD; Part Number: UWP1A330MCL1GB; Manufacturer: Nichicon; TemperatureRange: -40C ~ 85C; Ripple Current: 41mA; Lifetime @ Temp: 1000 Hrs @ 85C; Value: 33uF; PartId: 7267; Supplier 1: Digi-Key; Supplier Part Number 1: 493-9813-2-ND; ComponentLink1Description: Datasheet; ComponentLink1URL: http://nichicon-us.com/english/products/pdfs/e-wp.pdf; ComponentLink2Description: Digi-Key listing; ComponentLink2URL: http://digikey.com/product-detail/en/UWP1A330MCL1GB/493-9813-2-ND/2550782; Tolerance: 20%; Voltage: 10V; Price: 0.2541; Type: -; Device Package: Radial, Can - SMD; Impedance: -
footprint CAP ALUM 6.6MM
pins: 1, 2

## UWP1C330MCL1GB
designator C?, comment 33uF
CAP ALUM 33UF 20% 16V SMD; Part Number: UWP1C330MCL1GB; Manufacturer: Nichicon; TemperatureRange: -40C ~ 85C; Ripple Current: 49mA; Lifetime @ Temp: 1000 Hrs @ 85C; Value: 33uF; PartId: 7266; Supplier 1: Digi-Key; Supplier Part Number 1: 493-9817-2-ND; ComponentLink1Description: Datasheet; ComponentLink1URL: http://nichicon-us.com/english/products/pdfs/e-wp.pdf; ComponentLink2Description: Digi-Key listing; ComponentLink2URL: http://digikey.com/product-detail/en/UWP1C330MCL1GB/493-9817-2-ND/2550786; Tolerance: 20%; Voltage: 16V; Price: 0.2541; Type: -; Device Package: Radial, Can - SMD; Impedance: -
footprint CAP ALUM 6.6MM
pins: 1, 2

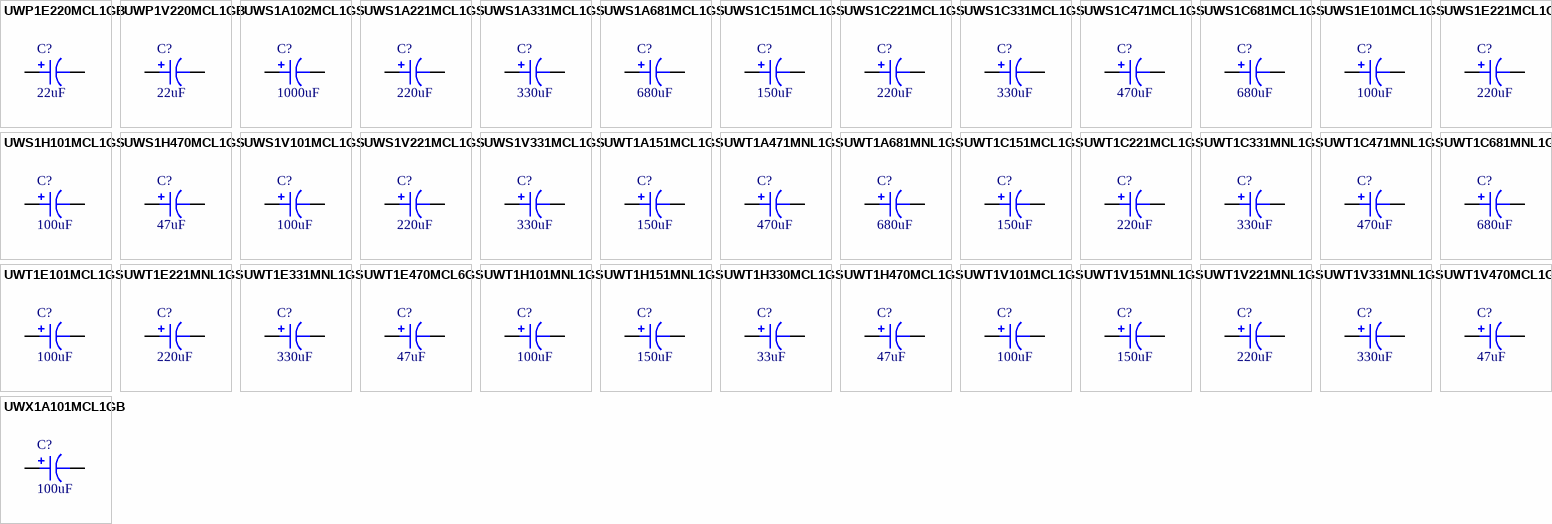
[diagram p6: symbols UWP1E220MCL1GB to UWX1A101MCL1GB]

## UWP1E220MCL1GB
designator C?, comment 22uF
CAP ALUM 22UF 20% 25V SMD; Part Number: UWP1E220MCL1GB; Manufacturer: Nichicon; TemperatureRange: -40C ~ 85C; Ripple Current: 50mA; Lifetime @ Temp: 1000 Hrs @ 85C; Value: 22uF; PartId: 7349; Supplier 1: Digi-Key; Supplier Part Number 1: 493-9821-2-ND; ComponentLink1Description: Datasheet; ComponentLink1URL: http://nichicon-us.com/english/products/pdfs/e-wp.pdf; ComponentLink2Description: Digi-Key listing; ComponentLink2URL: http://digikey.com/product-detail/en/UWP1E220MCL1GB/493-9821-2-ND/2550790; Tolerance: 20%; Voltage: 25V; Price: 0.3026; Type: -; Device Package: Radial, Can - SMD; Impedance: -
footprint CAP ALUM 8.3MM
pins: 1, 2

## UWP1V220MCL1GB
designator C?, comment 22uF
CAP ALUM 22UF 20% 35V SMD; Part Number: UWP1V220MCL1GB; Manufacturer: Nichicon; TemperatureRange: -40C ~ 85C; Ripple Current: 54mA; Lifetime @ Temp: 1000 Hrs @ 85C; Value: 22uF; PartId: 7348; Supplier 1: Digi-Key; Supplier Part Number 1: 493-9835-2-ND; ComponentLink1Description: Datasheet; ComponentLink1URL: http://nichicon-us.com/english/products/pdfs/e-wp.pdf; ComponentLink2Description: Digi-Key listing; ComponentLink2URL: http://digikey.com/product-detail/en/UWP1V220MCL1GB/493-9835-2-ND/2550804; Tolerance: 20%; Voltage: 35V; Price: 0.3021; Type: -; Device Package: Radial, Can - SMD; Impedance: -
footprint CAP ALUM 8.3MM
pins: 1, 2

## UWS1A102MCL1GS
designator C?, comment 1000uF
CAP ALUM 1000UF 20% 10V SMD; Part Number: UWS1A102MCL1GS; Manufacturer: Nichicon; TemperatureRange: -40C ~ 85C; Type: High Temperature Reflow; Ripple Current: 454mA; Lifetime @ Temp: 2000 Hrs @ 85C; Value: 1000uF; PartId: 7412; Supplier 1: Digi-Key; Supplier Part Number 1: 493-6326-2-ND; ComponentLink1Description: Datasheet; ComponentLink1URL: http://nichicon-us.com/english/products/pdfs/e-ws.pdf; ComponentLink2Description: Digi-Key listing; ComponentLink2URL: http://digikey.com/product-detail/en/UWS1A102MCL1GS/493-6326-2-ND/2550815; Tolerance: 20%; Voltage: 10V; Price: 0.3313; Device Package: Radial, Can - SMD; Impedance: -
footprint CAP ALUM 10.3MM
pins: 1, 2

## UWS1A221MCL1GS
designator C?, comment 220uF
CAP ALUM 220UF 20% 10V SMD; Part Number: UWS1A221MCL1GS; Manufacturer: Nichicon; TemperatureRange: -40C ~ 85C; Type: High Temperature Reflow; Ripple Current: 175mA; Lifetime @ Temp: 2000 Hrs @ 85C; Value: 220uF; PartId: 7306; Supplier 1: Digi-Key; Supplier Part Number 1: 493-9846-2-ND; ComponentLink1Description: Datasheet; ComponentLink1URL: http://nichicon-us.com/english/products/pdfs/e-ws.pdf; ComponentLink2Description: Digi-Key listing; ComponentLink2URL: http://digikey.com/product-detail/en/UWS1A221MCL1GS/493-9846-2-ND/2550817; Tolerance: 20%; Voltage: 10V; Price: 0.1559; Device Package: Radial, Can - SMD; Impedance: -
footprint CAP ALUM 8.3MM
pins: 1, 2

## UWS1A331MCL1GS
designator C?, comment 330uF
CAP ALUM 330UF 20% 10V SMD; Part Number: UWS1A331MCL1GS; Manufacturer: Nichicon; TemperatureRange: -40C ~ 85C; Type: High Temperature Reflow; Ripple Current: 240mA; Lifetime @ Temp: 2000 Hrs @ 85C; Value: 330uF; PartId: 7330; Supplier 1: Digi-Key; Supplier Part Number 1: 493-9847-2-ND; ComponentLink1Description: Datasheet; ComponentLink1URL: http://nichicon-us.com/english/products/pdfs/e-ws.pdf; ComponentLink2Description: Digi-Key listing; ComponentLink2URL: http://digikey.com/product-detail/en/UWS1A331MCL1GS/493-9847-2-ND/2550818; Tolerance: 20%; Voltage: 10V; Price: 0.2519; Device Package: Radial, Can - SMD; Impedance: -
footprint CAP ALUM 8.3MM
pins: 1, 2

## UWS1A681MCL1GS
designator C?, comment 680uF
CAP ALUM 680UF 20% 10V SMD; Part Number: UWS1A681MCL1GS; Manufacturer: Nichicon; TemperatureRange: -40C ~ 85C; Type: High Temperature Reflow; Ripple Current: 374mA; Lifetime @ Temp: 2000 Hrs @ 85C; Value: 680uF; PartId: 7409; Supplier 1: Digi-Key; Supplier Part Number 1: 493-9849-2-ND; ComponentLink1Description: Datasheet; ComponentLink1URL: http://nichicon-us.com/english/products/pdfs/e-ws.pdf; ComponentLink2Description: Digi-Key listing; ComponentLink2URL: http://digikey.com/product-detail/en/UWS1A681MCL1GS/493-9849-2-ND/2550820; Tolerance: 20%; Voltage: 10V; Price: 0.3293; Device Package: Radial, Can - SMD; Impedance: -
footprint CAP ALUM 10.3MM
pins: 1, 2

## UWS1C151MCL1GS
designator C?, comment 150uF
CAP ALUM 150UF 20% 16V SMD; Part Number: UWS1C151MCL1GS; Manufacturer: Nichicon; TemperatureRange: -40C ~ 85C; Type: High Temperature Reflow; Ripple Current: 151mA; Lifetime @ Temp: 2000 Hrs @ 85C; Value: 150uF; PartId: 7231; Supplier 1: Digi-Key; Supplier Part Number 1: 493-9851-2-ND; ComponentLink1Description: Datasheet; ComponentLink1URL: http://nichicon-us.com/english/products/pdfs/e-ws.pdf; ComponentLink2Description: Digi-Key listing; ComponentLink2URL: http://digikey.com/product-detail/en/UWS1C151MCL1GS/493-9851-2-ND/2550822; Tolerance: 20%; Voltage: 16V; Price: 0.1566; Device Package: Radial, Can - SMD; Impedance: -
footprint CAP ALUM 6.6MM
pins: 1, 2

## UWS1C221MCL1GS
designator C?, comment 220uF
CAP ALUM 220UF 20% 16V SMD; Part Number: UWS1C221MCL1GS; Manufacturer: Nichicon; TemperatureRange: -40C ~ 85C; Type: High Temperature Reflow; Ripple Current: 215mA; Lifetime @ Temp: 2000 Hrs @ 85C; Value: 220uF; PartId: 7331; Supplier 1: Digi-Key; Supplier Part Number 1: 493-9852-2-ND; ComponentLink1Description: Datasheet; ComponentLink1URL: http://nichicon-us.com/english/products/pdfs/e-ws.pdf; ComponentLink2Description: Digi-Key listing; ComponentLink2URL: http://digikey.com/product-detail/en/UWS1C221MCL1GS/493-9852-2-ND/2550823; Tolerance: 20%; Voltage: 16V; Price: 0.2519; Device Package: Radial, Can - SMD; Impedance: -
footprint CAP ALUM 8.3MM
pins: 1, 2

## UWS1C331MCL1GS
designator C?, comment 330uF
CAP ALUM 330UF 20% 16V SMD; Part Number: UWS1C331MCL1GS; Manufacturer: Nichicon; TemperatureRange: -40C ~ 85C; Type: High Temperature Reflow; Ripple Current: 270mA; Lifetime @ Temp: 2000 Hrs @ 85C; Value: 330uF; PartId: 7332; Supplier 1: Digi-Key; Supplier Part Number 1: 493-9853-2-ND; ComponentLink1Description: Datasheet; ComponentLink1URL: http://nichicon-us.com/english/products/pdfs/e-ws.pdf; ComponentLink2Description: Digi-Key listing; ComponentLink2URL: http://digikey.com/product-detail/en/UWS1C331MCL1GS/493-9853-2-ND/2550824; Tolerance: 20%; Voltage: 16V; Price: 0.2519; Device Package: Radial, Can - SMD; Impedance: -
footprint CAP ALUM 8.3MM
pins: 1, 2

## UWS1C471MCL1GS
designator C?, comment 470uF
CAP ALUM 470UF 20% 16V SMD; Part Number: UWS1C471MCL1GS; Manufacturer: Nichicon; TemperatureRange: -40C ~ 85C; Type: High Temperature Reflow; Ripple Current: 330mA; Lifetime @ Temp: 2000 Hrs @ 85C; Value: 470uF; PartId: 7414; Supplier 1: Digi-Key; Supplier Part Number 1: 493-6327-2-ND; ComponentLink1Description: Datasheet; ComponentLink1URL: http://nichicon-us.com/english/products/pdfs/e-ws.pdf; ComponentLink2Description: Digi-Key listing; ComponentLink2URL: http://digikey.com/product-detail/en/UWS1C471MCL1GS/493-6327-2-ND/2550825; Tolerance: 20%; Voltage: 16V; Price: 0.3348; Device Package: Radial, Can - SMD; Impedance: -
footprint CAP ALUM 10.3MM
pins: 1, 2

## UWS1C681MCL1GS
designator C?, comment 680uF
CAP ALUM 680UF 20% 16V SMD; Part Number: UWS1C681MCL1GS; Manufacturer: Nichicon; TemperatureRange: -40C ~ 85C; Type: High Temperature Reflow; Ripple Current: 396mA; Lifetime @ Temp: 2000 Hrs @ 85C; Value: 680uF; PartId: 7408; Supplier 1: Digi-Key; Supplier Part Number 1: 493-9854-2-ND; ComponentLink1Description: Datasheet; ComponentLink1URL: http://nichicon-us.com/english/products/pdfs/e-ws.pdf; ComponentLink2Description: Digi-Key listing; ComponentLink2URL: http://digikey.com/product-detail/en/UWS1C681MCL1GS/493-9854-2-ND/2550826; Tolerance: 20%; Voltage: 16V; Price: 0.3293; Device Package: Radial, Can - SMD; Impedance: -
footprint CAP ALUM 10.3MM
pins: 1, 2

## UWS1E101MCL1GS
designator C?, comment 100uF
CAP ALUM 100UF 20% 25V SMD; Part Number: UWS1E101MCL1GS; Manufacturer: Nichicon; TemperatureRange: -40C ~ 85C; Type: High Temperature Reflow; Ripple Current: 145mA; Lifetime @ Temp: 2000 Hrs @ 85C; Value: 100uF; PartId: 7305; Supplier 1: Digi-Key; Supplier Part Number 1: 493-6328-2-ND; ComponentLink1Description: Datasheet; ComponentLink1URL: http://nichicon-us.com/english/products/pdfs/e-ws.pdf; ComponentLink2Description: Digi-Key listing; ComponentLink2URL: http://digikey.com/product-detail/en/UWS1E101MCL1GS/493-6328-2-ND/2550827; Tolerance: 20%; Voltage: 25V; Price: 0.1488; Device Package: Radial, Can - SMD; Impedance: -
footprint CAP ALUM 8.3MM
pins: 1, 2

## UWS1E221MCL1GS
designator C?, comment 220uF
CAP ALUM 220UF 20% 25V SMD; Part Number: UWS1E221MCL1GS; Manufacturer: Nichicon; TemperatureRange: -40C ~ 85C; Type: High Temperature Reflow; Ripple Current: 250mA; Lifetime @ Temp: 2000 Hrs @ 85C; Value: 220uF; PartId: 7410; Supplier 1: Digi-Key; Supplier Part Number 1: 493-9856-2-ND; ComponentLink1Description: Datasheet; ComponentLink1URL: http://nichicon-us.com/english/products/pdfs/e-ws.pdf; ComponentLink2Description: Digi-Key listing; ComponentLink2URL: http://digikey.com/product-detail/en/UWS1E221MCL1GS/493-9856-2-ND/2550829; Tolerance: 20%; Voltage: 25V; Price: 0.3293; Device Package: Radial, Can - SMD; Impedance: -
footprint CAP ALUM 10.3MM
pins: 1, 2

## UWS1H101MCL1GS
designator C?, comment 100uF
CAP ALUM 100UF 20% 50V SMD; Part Number: UWS1H101MCL1GS; Manufacturer: Nichicon; TemperatureRange: -40C ~ 85C; Type: High Temperature Reflow; Ripple Current: 195mA; Lifetime @ Temp: 2000 Hrs @ 85C; Value: 100uF; PartId: 7415; Supplier 1: Digi-Key; Supplier Part Number 1: 493-9860-2-ND; ComponentLink1Description: Datasheet; ComponentLink1URL: http://nichicon-us.com/english/products/pdfs/e-ws.pdf; ComponentLink2Description: Digi-Key listing; ComponentLink2URL: http://digikey.com/product-detail/en/UWS1H101MCL1GS/493-9860-2-ND/2550833; Tolerance: 20%; Voltage: 50V; Price: 0.3405; Device Package: Radial, Can - SMD; Impedance: -
footprint CAP ALUM 10.3MM
pins: 1, 2

## UWS1H470MCL1GS
designator C?, comment 47uF
CAP ALUM 47UF 20% 50V SMD; Part Number: UWS1H470MCL1GS; Manufacturer: Nichicon; TemperatureRange: -40C ~ 85C; Type: High Temperature Reflow; Ripple Current: 140mA; Lifetime @ Temp: 2000 Hrs @ 85C; Value: 47uF; PartId: 7329; Supplier 1: Digi-Key; Supplier Part Number 1: 493-6200-2-ND; ComponentLink1Description: Datasheet; ComponentLink1URL: http://nichicon-us.com/english/products/pdfs/e-ws.pdf; ComponentLink2Description: Digi-Key listing; ComponentLink2URL: http://digikey.com/product-detail/en/UWS1H470MCL1GS/493-6200-2-ND/2550838; Tolerance: 20%; Voltage: 50V; Price: 0.2519; Device Package: Radial, Can - SMD; Impedance: -
footprint CAP ALUM 8.3MM
pins: 1, 2

## UWS1V101MCL1GS
designator C?, comment 100uF
CAP ALUM 100UF 20% 35V SMD; Part Number: UWS1V101MCL1GS; Manufacturer: Nichicon; TemperatureRange: -40C ~ 85C; Type: High Temperature Reflow; Ripple Current: 175mA; Lifetime @ Temp: 2000 Hrs @ 85C; Value: 100uF; PartId: 7328; Supplier 1: Digi-Key; Supplier Part Number 1: 493-6330-2-ND; ComponentLink1Description: Datasheet; ComponentLink1URL: http://nichicon-us.com/english/products/pdfs/e-ws.pdf; ComponentLink2Description: Digi-Key listing; ComponentLink2URL: http://digikey.com/product-detail/en/UWS1V101MCL1GS/493-6330-2-ND/2550839; Tolerance: 20%; Voltage: 35V; Price: 0.2519; Device Package: Radial, Can - SMD; Impedance: -
footprint CAP ALUM 8.3MM
pins: 1, 2

## UWS1V221MCL1GS
designator C?, comment 220uF
CAP ALUM 220UF 20% 35V SMD; Part Number: UWS1V221MCL1GS; Manufacturer: Nichicon; TemperatureRange: -40C ~ 85C; Type: High Temperature Reflow; Ripple Current: 265mA; Lifetime @ Temp: 2000 Hrs @ 85C; Value: 220uF; PartId: 7416; Supplier 1: Digi-Key; Supplier Part Number 1: 493-9865-2-ND; ComponentLink1Description: Datasheet; ComponentLink1URL: http://nichicon-us.com/english/products/pdfs/e-ws.pdf; ComponentLink2Description: Digi-Key listing; ComponentLink2URL: http://digikey.com/product-detail/en/UWS1V221MCL1GS/493-9865-2-ND/2550841; Tolerance: 20%; Voltage: 35V; Price: 0.3422; Device Package: Radial, Can - SMD; Impedance: -
footprint CAP ALUM 10.3MM
pins: 1, 2

## UWS1V331MCL1GS
designator C?, comment 330uF
CAP ALUM 330UF 20% 35V SMD; Part Number: UWS1V331MCL1GS; Manufacturer: Nichicon; TemperatureRange: -40C ~ 85C; Type: High Temperature Reflow; Ripple Current: 324mA; Lifetime @ Temp: 2000 Hrs @ 85C; Value: 330uF; PartId: 7407; Supplier 1: Digi-Key; Supplier Part Number 1: 493-9867-2-ND; ComponentLink1Description: Datasheet; ComponentLink1URL: http://nichicon-us.com/english/products/pdfs/e-ws.pdf; ComponentLink2Description: Digi-Key listing; ComponentLink2URL: http://digikey.com/product-detail/en/UWS1V331MCL1GS/493-9867-2-ND/2550843; Tolerance: 20%; Voltage: 35V; Price: 0.3293; Device Package: Radial, Can - SMD; Impedance: -
footprint CAP ALUM 10.3MM
pins: 1, 2

## UWT1A151MCL1GS
designator C?, comment 150uF
CAP ALUM 150UF 20% 10V SMD; Part Number: UWT1A151MCL1GS; Manufacturer: Nichicon; TemperatureRange: -55C ~ 105C; Type: General Purpose; Ripple Current: 86mA; Lifetime @ Temp: 1000 Hrs @ 105C; Value: 150uF; PartId: 7201; Supplier 1: Digi-Key; Supplier Part Number 1: 493-2166-2-ND; ComponentLink1Description: Datasheet; ComponentLink1URL: http://nichicon-us.com/english/products/pdfs/e-wt.pdf; ComponentLink2Description: Digi-Key listing; ComponentLink2URL: http://digikey.com/product-detail/en/UWT1A151MCL1GS/493-2166-2-ND/589907; Tolerance: 20%; Voltage: 10V; Price: 0.1117; Device Package: Radial, Can - SMD; Impedance: -
footprint CAP ALUM 6.6MM
pins: 1, 2

## UWT1A471MNL1GS
designator C?, comment 470uF
CAP ALUM 470UF 20% 10V SMD; Part Number: UWT1A471MNL1GS; Manufacturer: Nichicon; TemperatureRange: -55C ~ 105C; Type: General Purpose; Ripple Current: 210mA; Lifetime @ Temp: 1000 Hrs @ 105C; Value: 470uF; PartId: 7282; Supplier 1: Digi-Key; Supplier Part Number 1: 493-2169-2-ND; ComponentLink1Description: Datasheet; ComponentLink1URL: http://nichicon-us.com/english/products/pdfs/e-wt.pdf; ComponentLink2Description: Digi-Key listing; ComponentLink2URL: http://digikey.com/product-detail/en/UWT1A471MNL1GS/493-2169-2-ND/589910; Tolerance: 20%; Voltage: 10V; Price: 0.2124; Device Package: Radial, Can - SMD; Impedance: -
footprint CAP ALUM 8.3MM
pins: 1, 2

## UWT1A681MNL1GS
designator C?, comment 680uF
CAP ALUM 680UF 20% 10V SMD; Part Number: UWT1A681MNL1GS; Manufacturer: Nichicon; TemperatureRange: -55C ~ 105C; Type: General Purpose; Ripple Current: 310mA; Lifetime @ Temp: 1000 Hrs @ 105C; Value: 680uF; PartId: 7388; Supplier 1: Digi-Key; Supplier Part Number 1: 493-2170-2-ND; ComponentLink1Description: Datasheet; ComponentLink1URL: http://nichicon-us.com/english/products/pdfs/e-wt.pdf; ComponentLink2Description: Digi-Key listing; ComponentLink2URL: http://digikey.com/product-detail/en/UWT1A681MNL1GS/493-2170-2-ND/589911; Tolerance: 20%; Voltage: 10V; Price: 0.2685; Device Package: Radial, Can - SMD; Impedance: -
footprint CAP ALUM 10.3MM
pins: 1, 2

## UWT1C151MCL1GS
designator C?, comment 150uF
CAP ALUM 150UF 20% 16V SMD; Part Number: UWT1C151MCL1GS; Manufacturer: Nichicon; TemperatureRange: -55C ~ 105C; Type: General Purpose; Ripple Current: 95mA; Lifetime @ Temp: 1000 Hrs @ 105C; Value: 150uF; PartId: 7228; Supplier 1: Digi-Key; Supplier Part Number 1: 493-2178-2-ND; ComponentLink1Description: Datasheet; ComponentLink1URL: http://nichicon-us.com/english/products/pdfs/e-wt.pdf; ComponentLink2Description: Digi-Key listing; ComponentLink2URL: http://digikey.com/product-detail/en/UWT1C151MCL1GS/493-2178-2-ND/589919; Tolerance: 20%; Voltage: 16V; Price: 0.154; Device Package: Radial, Can - SMD; Impedance: -
footprint CAP ALUM 6.6MM
pins: 1, 2

## UWT1C221MCL1GS
designator C?, comment 220uF
CAP ALUM 220UF 20% 16V SMD; Part Number: UWT1C221MCL1GS; Manufacturer: Nichicon; TemperatureRange: -55C ~ 105C; Type: General Purpose; Ripple Current: 105mA; Lifetime @ Temp: 1000 Hrs @ 105C; Value: 220uF; PartId: 7212; Supplier 1: Digi-Key; Supplier Part Number 1: 493-2179-2-ND; ComponentLink1Description: Datasheet; ComponentLink1URL: http://nichicon-us.com/english/products/pdfs/e-wt.pdf; ComponentLink2Description: Digi-Key listing; ComponentLink2URL: http://digikey.com/product-detail/en/UWT1C221MCL1GS/493-2179-2-ND/589920; Tolerance: 20%; Voltage: 16V; Price: 0.1265; Device Package: Radial, Can - SMD; Impedance: -
footprint CAP ALUM 6.6MM
pins: 1, 2

## UWT1C331MNL1GS
designator C?, comment 330uF
CAP ALUM 330UF 20% 16V SMD; Part Number: UWT1C331MNL1GS; Manufacturer: Nichicon; TemperatureRange: -55C ~ 105C; Type: General Purpose; Ripple Current: 195mA; Lifetime @ Temp: 1000 Hrs @ 105C; Value: 330uF; PartId: 7286; Supplier 1: Digi-Key; Supplier Part Number 1: 493-2180-2-ND; ComponentLink1Description: Datasheet; ComponentLink1URL: http://nichicon-us.com/english/products/pdfs/e-wt.pdf; ComponentLink2Description: Digi-Key listing; ComponentLink2URL: http://digikey.com/product-detail/en/UWT1C331MNL1GS/493-2180-2-ND/589921; Tolerance: 20%; Voltage: 16V; Price: 0.2201; Device Package: Radial, Can - SMD; Impedance: -
footprint CAP ALUM 8.3MM
pins: 1, 2

## UWT1C471MNL1GS
designator C?, comment 470uF
CAP ALUM 470UF 20% 16V SMD; Part Number: UWT1C471MNL1GS; Manufacturer: Nichicon; TemperatureRange: -55C ~ 105C; Type: General Purpose; Ripple Current: 230mA; Lifetime @ Temp: 1000 Hrs @ 105C; Value: 470uF; PartId: 7296; Supplier 1: Digi-Key; Supplier Part Number 1: 493-2181-2-ND; ComponentLink1Description: Datasheet; ComponentLink1URL: http://nichicon-us.com/english/products/pdfs/e-wt.pdf; ComponentLink2Description: Digi-Key listing; ComponentLink2URL: http://digikey.com/product-detail/en/UWT1C471MNL1GS/493-2181-2-ND/589922; Tolerance: 20%; Voltage: 16V; Price: 0.2456; Device Package: Radial, Can - SMD; Impedance: -
footprint CAP ALUM 8.3MM
pins: 1, 2

## UWT1C681MNL1GS
designator C?, comment 680uF
CAP ALUM 680UF 20% 16V SMD; Part Number: UWT1C681MNL1GS; Manufacturer: Nichicon; TemperatureRange: -55C ~ 105C; Type: General Purpose; Ripple Current: 310mA; Lifetime @ Temp: 1000 Hrs @ 105C; Value: 680uF; PartId: 7387; Supplier 1: Digi-Key; Supplier Part Number 1: 493-2182-2-ND; ComponentLink1Description: Datasheet; ComponentLink1URL: http://nichicon-us.com/english/products/pdfs/e-wt.pdf; ComponentLink2Description: Digi-Key listing; ComponentLink2URL: http://digikey.com/product-detail/en/UWT1C681MNL1GS/493-2182-2-ND/589923; Tolerance: 20%; Voltage: 16V; Price: 0.2685; Device Package: Radial, Can - SMD; Impedance: -
footprint CAP ALUM 10.3MM
pins: 1, 2

## UWT1E101MCL1GS
designator C?, comment 100uF
CAP ALUM 100UF 20% 25V SMD; Part Number: UWT1E101MCL1GS; Manufacturer: Nichicon; TemperatureRange: -55C ~ 105C; Type: General Purpose; Ripple Current: 91mA; Lifetime @ Temp: 1000 Hrs @ 105C; Value: 100uF; PartId: 7215; Supplier 1: Digi-Key; Supplier Part Number 1: 493-2190-2-ND; ComponentLink1Description: Datasheet; ComponentLink1URL: http://nichicon-us.com/english/products/pdfs/e-wt.pdf; ComponentLink2Description: Digi-Key listing; ComponentLink2URL: http://digikey.com/product-detail/en/UWT1E101MCL1GS/493-2190-2-ND/589931; Tolerance: 20%; Voltage: 25V; Price: 0.1317; Device Package: Radial, Can - SMD; Impedance: -
footprint CAP ALUM 6.6MM
pins: 1, 2

## UWT1E221MNL1GS
designator C?, comment 220uF
CAP ALUM 220UF 20% 25V SMD; Part Number: UWT1E221MNL1GS; Manufacturer: Nichicon; TemperatureRange: -55C ~ 105C; Type: General Purpose; Ripple Current: 155mA; Lifetime @ Temp: 1000 Hrs @ 105C; Value: 220uF; PartId: 7279; Supplier 1: Digi-Key; Supplier Part Number 1: 493-2192-2-ND; ComponentLink1Description: Datasheet; ComponentLink1URL: http://nichicon-us.com/english/products/pdfs/e-wt.pdf; ComponentLink2Description: Digi-Key listing; ComponentLink2URL: http://digikey.com/product-detail/en/UWT1E221MNL1GS/493-2192-2-ND/589933; Tolerance: 20%; Voltage: 25V; Price: 0.2053; Device Package: Radial, Can - SMD; Impedance: -
footprint CAP ALUM 8.3MM
pins: 1, 2

## UWT1E331MNL1GS
designator C?, comment 330uF
CAP ALUM 330UF 20% 25V SMD; Part Number: UWT1E331MNL1GS; Manufacturer: Nichicon; TemperatureRange: -55C ~ 105C; Type: General Purpose; Ripple Current: 190mA; Lifetime @ Temp: 1000 Hrs @ 105C; Value: 330uF; PartId: 7287; Supplier 1: Digi-Key; Supplier Part Number 1: 493-2193-2-ND; ComponentLink1Description: Datasheet; ComponentLink1URL: http://nichicon-us.com/english/products/pdfs/e-wt.pdf; ComponentLink2Description: Digi-Key listing; ComponentLink2URL: http://digikey.com/product-detail/en/UWT1E331MNL1GS/493-2193-2-ND/589934; Tolerance: 20%; Voltage: 25V; Price: 0.2201; Device Package: Radial, Can - SMD; Impedance: -
footprint CAP ALUM 8.3MM
pins: 1, 2